# EAGLE library part UBLOXLEA6TBOB (library csgshop)
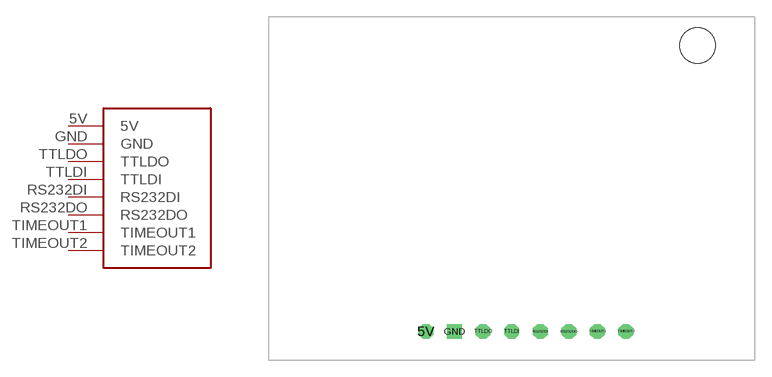
[diagram p0: symbol with the pads of UBLOXLEA6TBOB; footprint UBLOXLEA6TBOB]

Designator prefix -

## UBLOXLEA6TBOB  [UBLOXLEA6TBOB]
5V  5V
GND  GND
RS232DI  RS232DI
RS232DO  RS232DO
TIMEOUT1  TIMEOUT1
TIMEOUT2  TIMEOUT2
TTLDI  TTLDI
TTLDO  TTLDO

## Footprint UBLOXLEA6TBOB (pad centres in mm)
drill 0.813 octagon: 5V 13.97,2.54; RS232DI 24.13,2.54; RS232DO 26.67,2.54; TIMEOUT1 29.21,2.54; TIMEOUT2 31.75,2.54; TTLDI 21.59,2.54; TTLDO 19.05,2.54
drill 0.813 square: GND 16.51,2.54
hole 3.175 at 38.1,27.94